# EAGLE library part APFEL (library ++Bedrahtet)
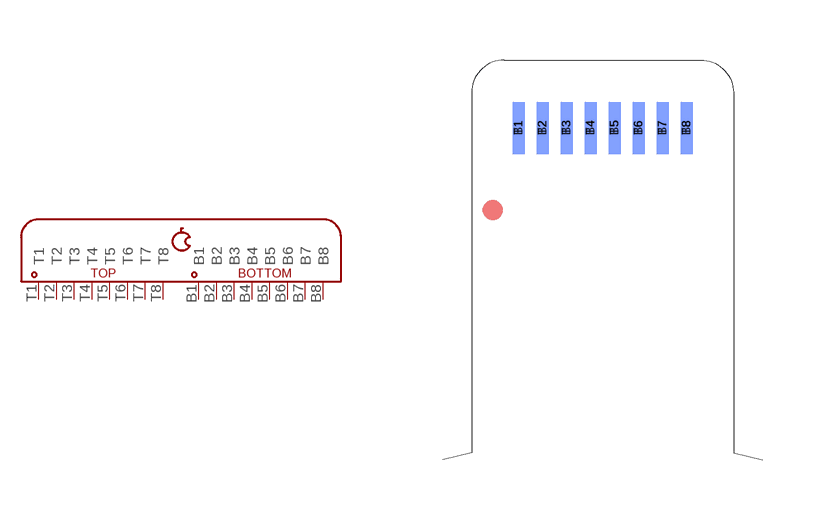
[diagram p32: symbol with the pads of APFEL; footprint APFEL]

Designator prefix X

## APFEL  [APFEL]
B1  B1
B2  B2
B3  B3
B4  B4
B5  B5
B6  B6
B7  B7
B8  B8
T1  T1
T2  T2
T3  T3
T4  T4
T5  T5
T6  T6
T7  T7
T8  T8

## Footprint APFEL (pad centres in mm)
smd 0.3 x 1.3 bottom: B1 -2.1,-1.7; B2 -1.5,-1.7; B3 -0.9,-1.7; B4 -0.3,-1.7; B5 0.3,-1.7; B6 0.9,-1.7; B7 1.5,-1.7; B8 2.1,-1.7
smd 0.3 x 1.3: T1 -2.1,-1.7; T2 -1.5,-1.7; T3 -0.9,-1.7; T4 -0.3,-1.7; T5 0.3,-1.7; T6 0.9,-1.7; T7 1.5,-1.7; T8 2.1,-1.7